# Altium footprint library yaokong.PcbLib: 21 footprints (part 1 of 2)
Each footprint in its own frame and in the unit in brackets; x right, y up, seen from the top. Pads: shape width x height; smd on the part's side, far side on the other; paste and mask are expansions set on the pad; w line width, h text height; cw(c..) or ccw(c..) is an arc to the next point about the centre after c.
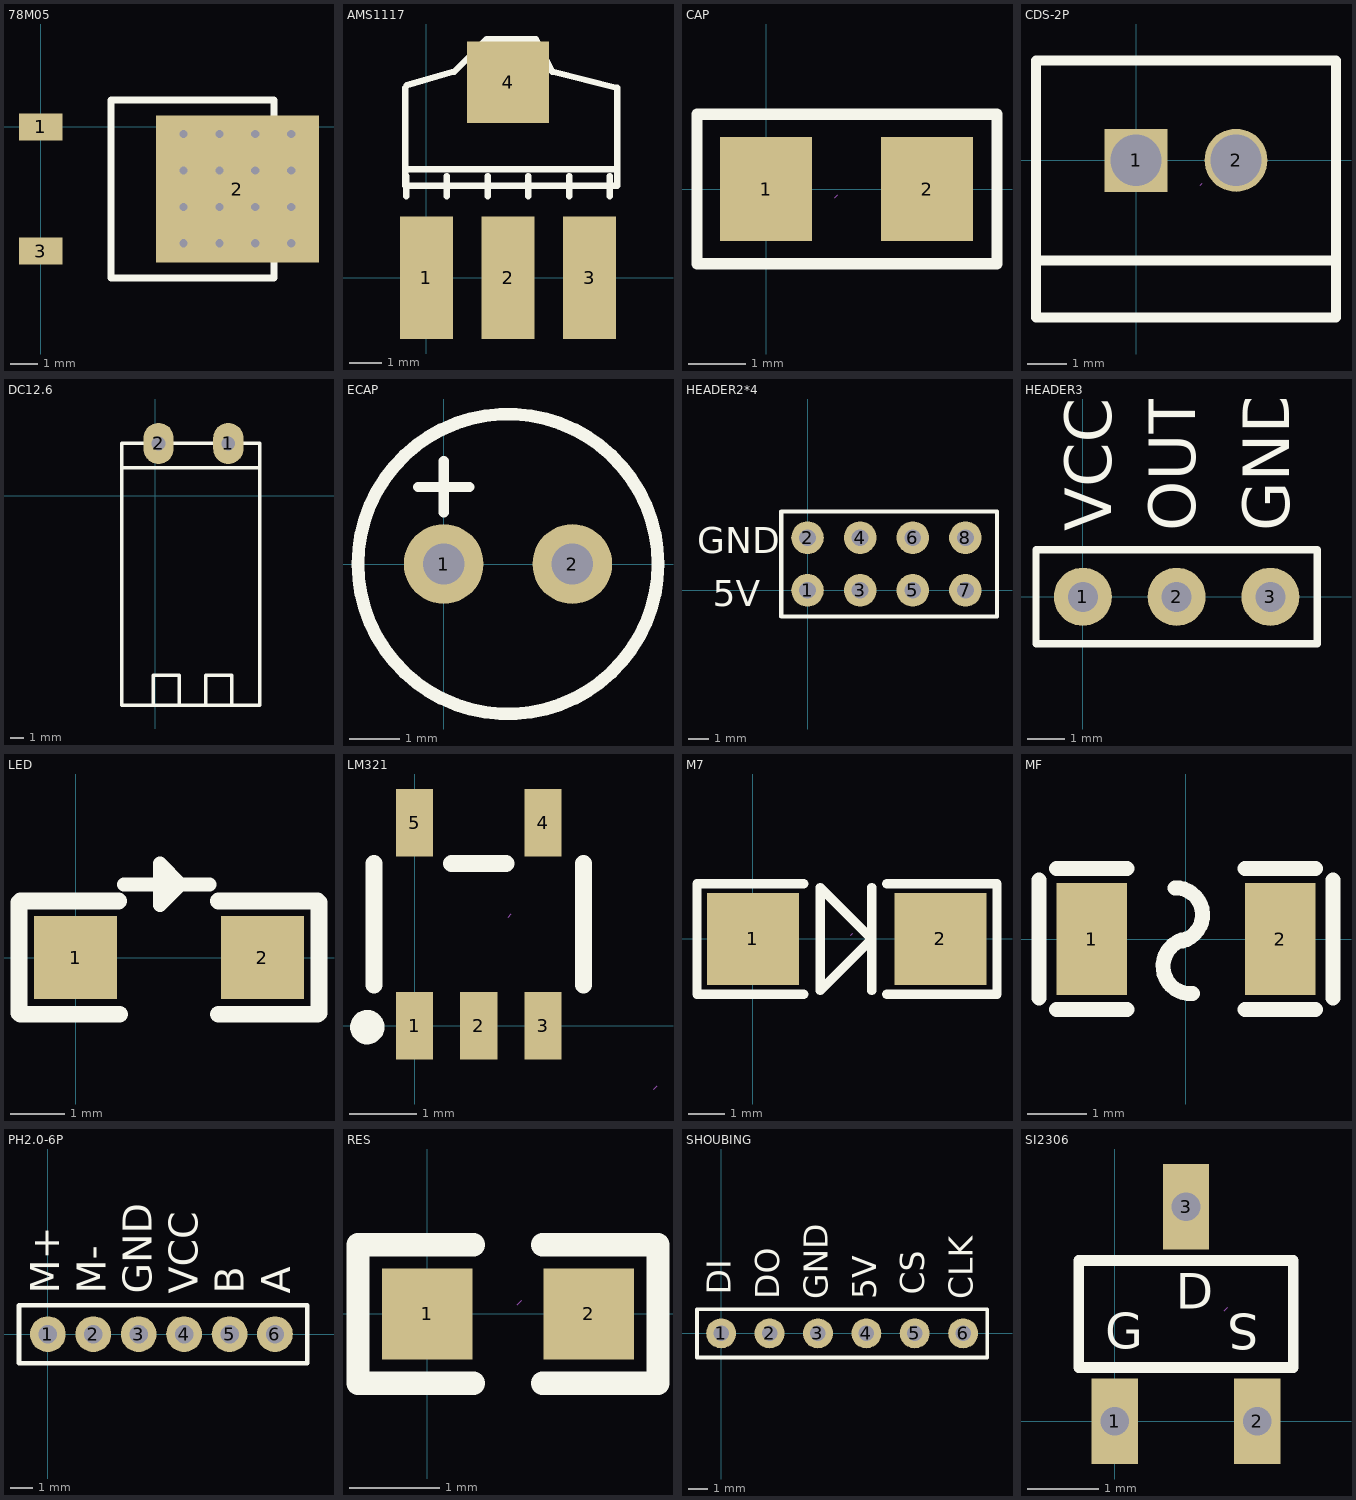
[diagram p0: the footprints below, top view; thin cyan lines are the x and y axes]

## 78M05 [mil]
pads (3):
  rect 63x39.4 smd: 1(0,0) 3(0,-180)
  rect 236.22x212.6 smd: 2(285,-90)
via 206.85,-168.74 diameter 24 hole 12
via 258.82,-168.74 diameter 24 hole 12
via 310.79,-168.74 diameter 24 hole 12
via 362.76,-168.74 diameter 24 hole 12
via 362.76,-115.99 diameter 24 hole 12
via 310.79,-115.99 diameter 24 hole 12
via 258.82,-115.99 diameter 24 hole 12
via 206.85,-115.99 diameter 24 hole 12
via 362.76,-63.23 diameter 24 hole 12
via 310.79,-63.23 diameter 24 hole 12
via 258.82,-63.23 diameter 24 hole 12
via 206.85,-63.23 diameter 24 hole 12
via 362.76,-10.48 diameter 24 hole 12
via 310.79,-10.48 diameter 24 hole 12
via 258.82,-10.48 diameter 24 hole 12
via 206.85,-10.48 diameter 24 hole 12
Top Overlay:
  lines w10: 102,-219 338,-219 338,39 102,39 102,-219
Mechanical 15:
  lines w10: 342,-191 370,-191 388,-173 388,-7 370,11 342,11 342,-191

## AMS1117 [mil]
pads (4):
  rect 65x150 smd: 1(0,0) 2(100,0) 3(200,0)
  rect 100x100 smd: 4(100,240)
Top Overlay:
  lines w7.9: -26,232.9 -26,132.9 ; -25,99.9 -25,124.9 ; -24.3,236.3 34,252.9 74,292.9 134,292.9 154,252.9 234,232.9 234,112.9 ; 25,99.9 25,124.9 ; 75,99.9 75,124.9 ; 125,99.9 125,124.9 ; 175,99.9 175,124.9 ; 225,99.9 225,124.9 ; -26,132.9 -26,112.9 234,112.9 ; -26,132.9 234,132.9 234,112.9
Mechanical 15:
  lines w0.1: 119.22,114.92 121.22,116.92

## CAP [mil]
pads (2):
  rect 62.99x70.87 smd: 1(0,0) 2(110.24,0)
Top Overlay:
  lines w7.87: -47.24,-51.18 -47.24,51.18 137.8,51.18 158.12,51.18 158.12,-51.18 137.8,-51.18 -47.24,-51.18
Mechanical 15:
  lines w0.1: 46.94,-6 48.94,-4

## CDS-2P [mm]
pads (2):
  rect 1.6x1.6 hole 1.3: 1(0,0)
  round 1.6 hole 1.3: 2(2.54,0)
Top Overlay:
  lines w0.254: -2.54,-2.54 -2.54,-4 5.08,-4 5.08,-2.54 ; -2.54,-2.54 -2.54,2.54 5.08,2.54 5.08,-2.54 ; -2.54,-2.54 5.08,-2.54
Mechanical 15:
  lines w0.003: 1.626,-0.628 1.676,-0.578

## DC12.6 [mm]
pads (2):
  oval 2.2x3 hole 1: 1(5.334,3.81) 2(0.254,3.81)
Top Layer keep-out:
  region: -9.906,-13.208
  region: 11.938,1.27
Top Overlay:
  lines w0.254: -2.413,2.032 7.62,2.032 ; -0.127,-15.215 -0.127,-13.081 1.778,-13.081 1.778,-15.215 ; 3.683,-15.215 3.683,-13.081 5.588,-13.081 5.588,-15.215 ; -2.413,-15.24 7.62,-15.24 7.62,3.81 -2.413,3.81 -2.413,-15.24

## ECAP [mil]
pads (2):
  round 62 hole 32: 1(0,0) 2(100,0)
Top Overlay:
  circle w10: c50,0 r116.62
  lines w7.87: -20,60 20,60 ; 0,40 0,80

## HEADER2*4 [mil]
pads (8):
  round 62 hole 32: 1(0,0) 2(0,100) 3(100,0) 4(100,100) 5(200,0) 6(200,100) 7(300,0) 8(300,100)
Top Overlay:
  lines w7.87: -50,-50 360,-50 360,150 -50,150 -50,-50
  text "GND" at -210,70 h50
  text "5V" at -180,-30 h50

## HEADER3 [mil]
pads (3):
  round 62 hole 32: 1(0,0) 2(100,0) 3(200,0)
Top Overlay:
  lines w7.87: -50,-50 250,-50 250,50 -50,50 -50,-50
  text "GND" at 220,70 h50
  text "OUT" at 120,70 h50
  text "VCC" at 30,70 h50

## LED [mil]
pads (2):
  rect 60x60 smd: 1(0,0) 2(135,0)
Top Overlay:
  lines w10: 35,53 97,53 ; 61,38 61,68 76,53 61,38
  lines w12: -41,-40 -41,40 ; -40,-41 32,-41 ; -40,41 31,41 ; 103,-41 175,-41 ; 103,41 175,41 ; 176,-40 176,40

## LM321 [mm]
pads (5):
  rect 0.55x1 smd: 1(0,0) 2(0.95,0) 3(1.9,0) 4(1.9,3) 5(0,3)
Top Overlay:
  circle w0.254: c-0.701,-0.024 r0.127
  lines w0.254: -0.6,0.6 -0.6,2.4 ; 0.55,2.4 1.35,2.4 ; 2.5,0.6 2.5,2.4
Mechanical 15:
  lines w0.003: 1.382,1.602 1.433,1.652 ; 3.541,-0.938 3.592,-0.888

## M7 [mil]
pads (2):
  rect 98.43x98.43 smd: 1(0,0) 2(200.79,0)
Top Overlay:
  lines w10: 54.33,-59.05 -59.84,-59.05 -59.84,59.05 54.33,59.05 ; 127.17,-55.12 127.17,55.12 ; 143.31,-59.06 261.42,-59.06 261.42,59.05 143.31,59.05 ; 72.05,-55.12 72.05,55.12 127.17,0 72.05,-55.12
Mechanical 15:
  lines w0.1: 104.79,4 106.79,6

## MF [mm]
pads (2):
  rect 1.2x1.9 smd: 1(-1.6,0) 2(1.6,0)
Top Overlay:
  lines w0.254: -2.5,-1 -2.5,1 ; -2.2,-1.2 -1,-1.2 ; -2.2,1.2 -1,1.2 ; -0.19,0.87 cw(c-0.178,0.411) -0.137,-0.046 ; 0,0 ccw(c0.079,-0.462) 0.11,-0.93 ; 1,-1.2 2.2,-1.2 ; 1,1.2 2.2,1.2 ; 2.5,-1 2.5,1

## PH2.0-6P [mil]
pads (6):
  round 62 hole 32: 1(0,0) 2(78.74,0) 3(157.48,0) 4(236.22,0) 5(314.96,0) 6(393.7,0)
Top Overlay:
  lines w7.87: -50,-50 450,-50 450,50 -50,50 -50,40 -50,-50
  text "A" at 420,70 h50
  text "B" at 340,70 h50
  text "VCC" at 260,70 h50
  text "GND" at 180,70 h50
  text "M-" at 100,70 h50
  text "M+" at 20,70 h50

## RES [mm]
pads (2):
  rect 1x1 smd: 1(0,0) 2(1.778,0)
Top Overlay:
  lines w0.254: 0.508,-0.762 -0.762,-0.762 -0.762,0.762 0.508,0.762 ; 1.27,-0.762 2.54,-0.762 2.54,0.762 1.27,0.762
Mechanical 15:
  lines w0.003: 0.991,0.102 1.041,0.152

## SHOUBING [mil]
pads (6):
  round 62 hole 32: 1(0,0) 2(100,0) 3(200,0) 4(300,0) 5(400,0) 6(500,0)
Top Overlay:
  lines w7.87: -50,-50 -50,50 550,50 550,-50 -50,-50
  text "DI" at 20,80 h50
  text "DO" at 120,70 h50
  text "GND" at 220,70 h50
  text "5V" at 320,70 h50
  text "CS" at 420,80 h50
  text "CLK" at 520,70 h50

## SI2306 [mm]
pads (3):
  rect 0.65x1.2 hole 0.4: 1(0,0) 2(2,0) 3(1,3)
Top Overlay:
  lines w0.15: -0.5,0.75 2.5,0.75 2.5,2.25 -0.5,2.25 -0.5,0.75
  text "G" at -0.127,1.016 h0.5
  text "D" at 0.859,2.068 h0.5
  text "S" at 2.016,1.5 h0.5
Mechanical 15:
  lines w0.003: 1.534,1.543 1.585,1.593